# EAGLE library part MCP1640 (library adlr)
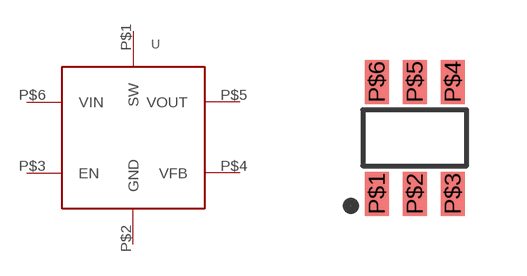
[diagram p0: symbol with the pads of SOT23-6; footprint SOT23-6]

Designator prefix -

## MCP1640  [SOT23-6]
P$1  SW
P$2  GND
P$3  EN
P$4  VFB
P$5  VOUT
P$6  VIN

## Footprint SOT23-6 (pad centres in mm)
smd 0.6 x 1.1: P$1 -0.95,-1.4; P$2 0,-1.4; P$3 0.95,-1.4; P$4 0.95,1.4; P$5 0,1.4; P$6 -0.95,1.4